# Altium integrated library TI Data Converters Digital to Analog Converter.IntLib: 1533 symbols (part 49 of 99)
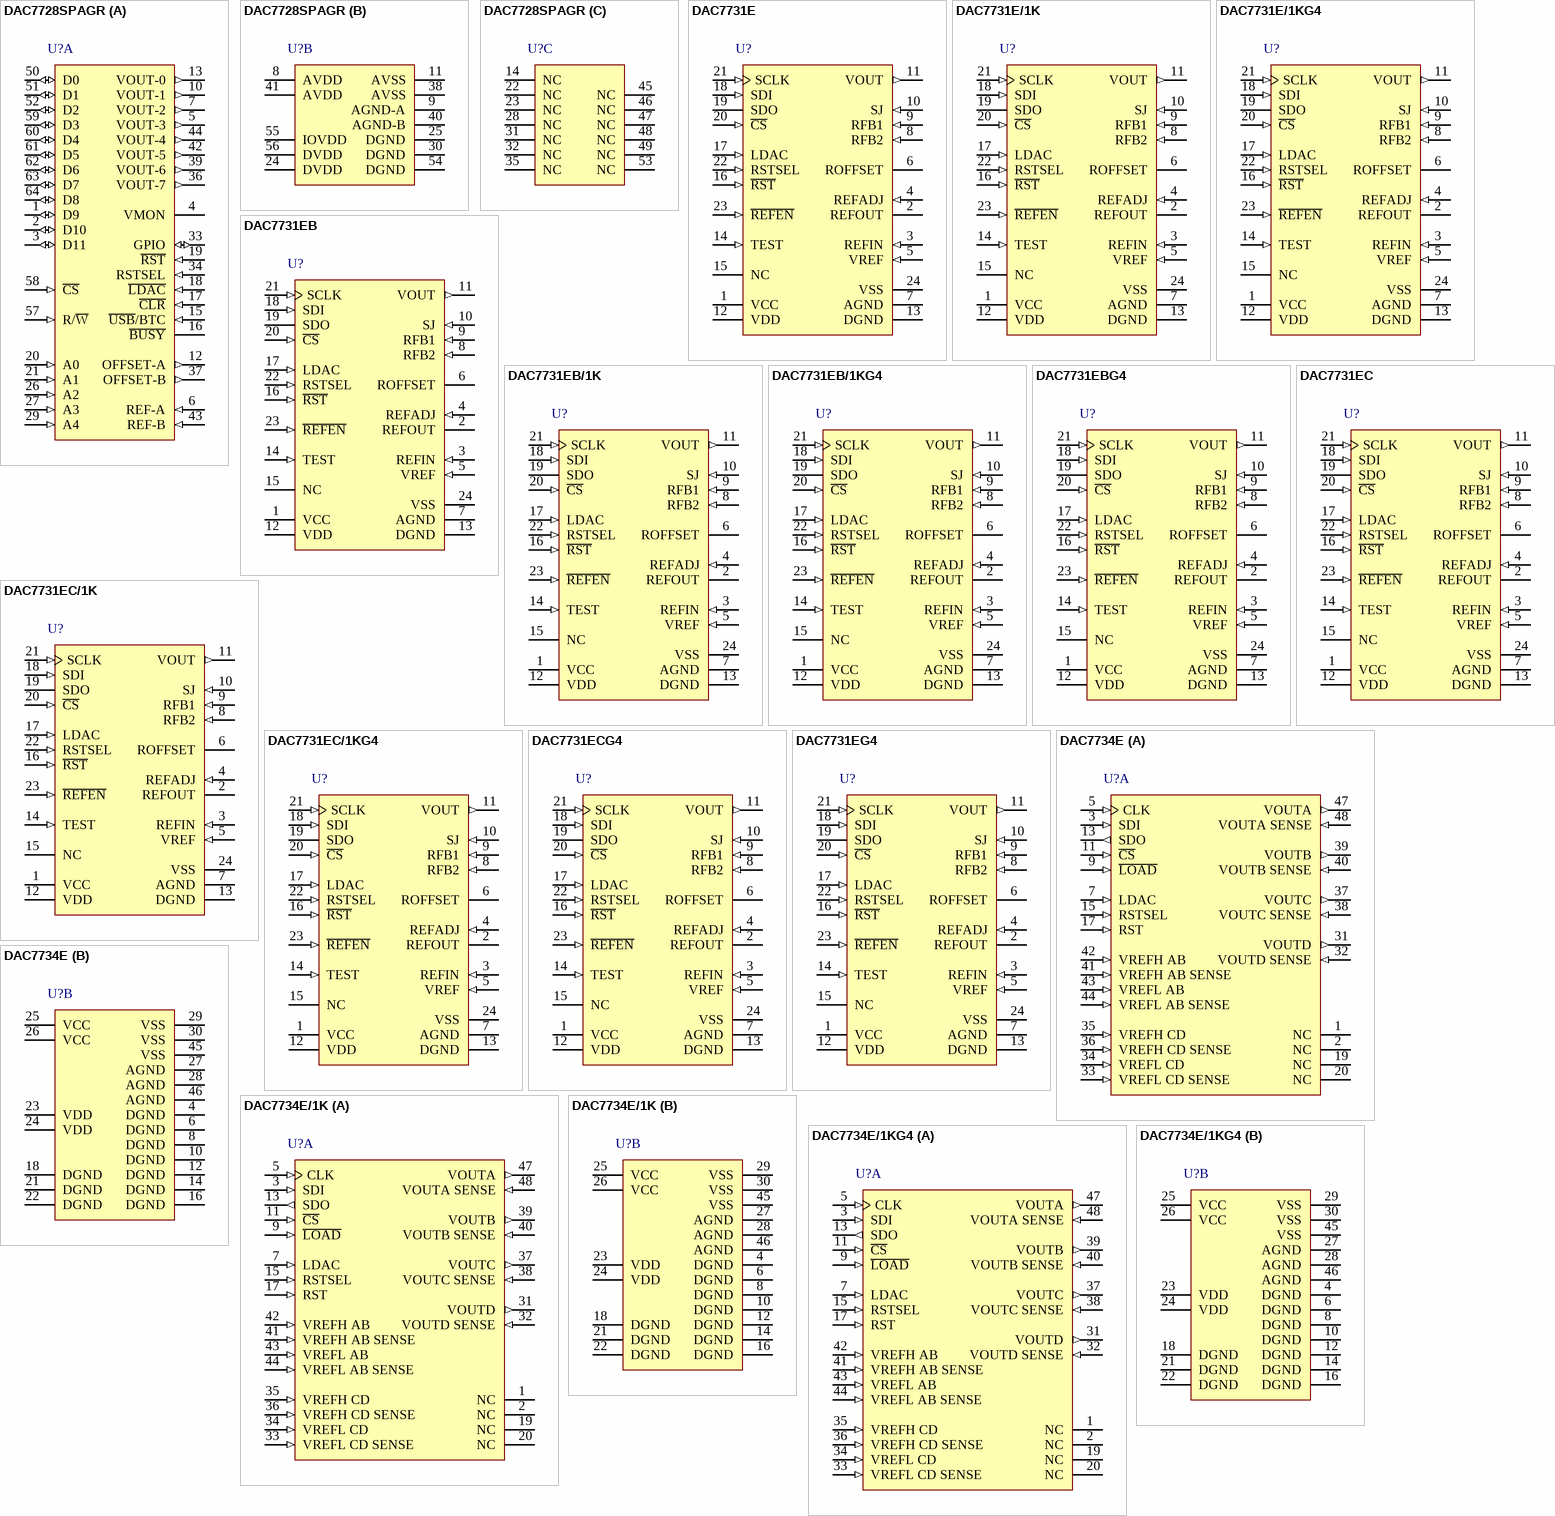
[diagram p121: symbols DAC7728SPAGR to DAC7734E/1KG4]

## DAC7731EC/1K
designator U?
16-Bit, Single Channel, DAC with Internal + 10 V Reference and Serial Interface, -40 to 85 degC, 24-pin SOP (DB24), Green (RoHS & no Sb/Br); Manufacturer: Texas Instruments; PartNumber: DAC7731EC/1K; DAC Channels: 1; INL(Max)(+/-LSB): 3; Interface: Serial SPI; Power Consumption(Typ)(mW): 100; Resolution(Bits): 16; Settling Time(us): 5; SubFamily: Precision DAC (=<10MSPS); DatasheetVersion: SBAS249B; PackageVersion: 4040065/E, 12/2001; PackageReference: DB24; PackageDescription: 24-Pin Plastic Small Outline, Body 8.2 x 5.3 mm, Pitch 0.65 mm; Supplier 1: Digi-Key; Supplier Part Number 1: DAC7731EC/1K-ND; Supplier 2: Mouser; Supplier Part Number 2: 595-DAC7731EC/1K; DNL(Max)(+/-LSB): 1; Eco-Plan: Green (RoHS & no Sb/Br); Mounting Technology: Surface Mount; Code_JEDEC: MO-150; ComponentLink1Description: Manufacturer URL; ComponentLink1URL: http://www.ti.com/; ComponentLink2Description: Datasheet; ComponentLink2URL: http://www.ti.com/general/docs/lit/getliterature.tsp?genericPartNumber=DAC7731&fileType=pdf; ComponentLink3Description: Package Specification; ComponentLink3URL: http://www.ti.com/lit/ml/msso002e/msso002e.pdf
footprint TI-DB24_N (SOP, 24-Leads, Body 8.2x5.3mm, Pitch 0.65mm, IPC Medium Density)
footprint TI-DB24_L (SOP, 24-Leads, Body 8.2x5.3mm, Pitch 0.65mm, IPC High Density)
footprint TI-DB24_M (SOP, 24-Leads, Body 8.2x5.3mm, Pitch 0.65mm, IPC Low Density)
pins: 1 VCC (power) "Positive Analog Power Supply", 2 REFOUT (hiz) "Internal Reference Output", 3 REFIN (in) "Reference Input", 4 REFADJ (in) "Internal Reference Trim. (Acts as a gain adjustment input when the internal reference is used.)", 5 VREF (in) "Buffered Output from REFIN, can be used to drive external devices. Internally, this pin directly drives the DAC's circuitry.", 6 ROFFSET "Offsetting Resistor", 7 AGND (power) "Analog ground", 8 RFB2 (in) "Feedback Resistor 2, used to configure DAC output range.", 9 RFB1 (in) "Feedback Resistor 1, used to configure DAC output range.", 10 SJ (in) "Summing Junction of the Output Amplifier", 11 VOUT (out) "DAC Voltage Output", 12 VDD (power) "Digital Power Supply", 13 DGND (power) "Digital Ground", 14 TEST (in) "Reserved, Connect to DGND", 15 NC "No Connection", 16 ~{RST} (in) "VOUT reset; active LOW, depending on the state of RSTSEL, the DAC register is either reset to midscale or min-scale.", 17 LDAC (in) "DAC register load control, rising dege triggered. Data is loaded from the input register to the DAC register.", 18 SDI (in) "Serial Data Input. Data is latched into the input register on the rising edge of SCLK.", 19 SDO (hiz) "Serial Data Output, delayed 16 SCLK clock cycles.", 20 ~{CS} (in) "Chip Select, Active LOW", 21 SCLK (in) "Serial Clock Input", 22 RSTSEL (in) "Reset Select; determines the action of R\S\T\. If HIGH, R\S\T\ will reset the DAC register to mid-scale. If LOW, R\S\T\ will reset the DAC register to min-scale.", 23 ~{REFEN} (in) "Enables internal +10V reference (REFOUT), active LOW.", 24 VSS (power) "Negative Analog Power Supply"

## DAC7731EC/1KG4
designator U?
16-Bit, Single Channel, DAC with Internal + 10 V Reference and Serial Interface, -40 to 85 degC, 24-pin SOP (DB24), Green (RoHS & no Sb/Br); Manufacturer: Texas Instruments; PartNumber: DAC7731EC/1KG4; DAC Channels: 1; INL(Max)(+/-LSB): 3; Interface: Serial SPI; Power Consumption(Typ)(mW): 100; Resolution(Bits): 16; Settling Time(us): 5; SubFamily: Precision DAC (=<10MSPS); DatasheetVersion: SBAS249B; PackageVersion: 4040065/E, 12/2001; PackageReference: DB24; PackageDescription: 24-Pin Plastic Small Outline, Body 8.2 x 5.3 mm, Pitch 0.65 mm; Supplier 1: Digi-Key; Supplier Part Number 1: DAC7731EC/1KG4-ND; Supplier 2: Mouser; Supplier Part Number 2: 595-DAC7731EC/1KG4; DNL(Max)(+/-LSB): 1; Eco-Plan: Green (RoHS & no Sb/Br); Mounting Technology: Surface Mount; Code_JEDEC: MO-150; ComponentLink1Description: Manufacturer URL; ComponentLink1URL: http://www.ti.com/; ComponentLink2Description: Datasheet; ComponentLink2URL: http://www.ti.com/general/docs/lit/getliterature.tsp?genericPartNumber=DAC7731&fileType=pdf; ComponentLink3Description: Package Specification; ComponentLink3URL: http://www.ti.com/lit/ml/msso002e/msso002e.pdf
footprint TI-DB24_N (SOP, 24-Leads, Body 8.2x5.3mm, Pitch 0.65mm, IPC Medium Density)
footprint TI-DB24_L (SOP, 24-Leads, Body 8.2x5.3mm, Pitch 0.65mm, IPC High Density)
footprint TI-DB24_M (SOP, 24-Leads, Body 8.2x5.3mm, Pitch 0.65mm, IPC Low Density)
pins: 1 VCC (power) "Positive Analog Power Supply", 2 REFOUT (hiz) "Internal Reference Output", 3 REFIN (in) "Reference Input", 4 REFADJ (in) "Internal Reference Trim. (Acts as a gain adjustment input when the internal reference is used.)", 5 VREF (in) "Buffered Output from REFIN, can be used to drive external devices. Internally, this pin directly drives the DAC's circuitry.", 6 ROFFSET "Offsetting Resistor", 7 AGND (power) "Analog ground", 8 RFB2 (in) "Feedback Resistor 2, used to configure DAC output range.", 9 RFB1 (in) "Feedback Resistor 1, used to configure DAC output range.", 10 SJ (in) "Summing Junction of the Output Amplifier", 11 VOUT (out) "DAC Voltage Output", 12 VDD (power) "Digital Power Supply", 13 DGND (power) "Digital Ground", 14 TEST (in) "Reserved, Connect to DGND", 15 NC "No Connection", 16 ~{RST} (in) "VOUT reset; active LOW, depending on the state of RSTSEL, the DAC register is either reset to midscale or min-scale.", 17 LDAC (in) "DAC register load control, rising dege triggered. Data is loaded from the input register to the DAC register.", 18 SDI (in) "Serial Data Input. Data is latched into the input register on the rising edge of SCLK.", 19 SDO (hiz) "Serial Data Output, delayed 16 SCLK clock cycles.", 20 ~{CS} (in) "Chip Select, Active LOW", 21 SCLK (in) "Serial Clock Input", 22 RSTSEL (in) "Reset Select; determines the action of R\S\T\. If HIGH, R\S\T\ will reset the DAC register to mid-scale. If LOW, R\S\T\ will reset the DAC register to min-scale.", 23 ~{REFEN} (in) "Enables internal +10V reference (REFOUT), active LOW.", 24 VSS (power) "Negative Analog Power Supply"

## DAC7731ECG4
designator U?
16-Bit, Single Channel, DAC with Internal + 10 V Reference and Serial Interface, -40 to 85 degC, 24-pin SOP (DB24), Green (RoHS & no Sb/Br); Manufacturer: Texas Instruments; PartNumber: DAC7731ECG4; DAC Channels: 1; INL(Max)(+/-LSB): 3; Interface: Serial SPI; Power Consumption(Typ)(mW): 100; Resolution(Bits): 16; Settling Time(us): 5; SubFamily: Precision DAC (=<10MSPS); DatasheetVersion: SBAS249B; PackageVersion: 4040065/E, 12/2001; PackageReference: DB24; PackageDescription: 24-Pin Plastic Small Outline, Body 8.2 x 5.3 mm, Pitch 0.65 mm; Supplier 1: Digi-Key; Supplier Part Number 1: DAC7731ECG4-ND; Supplier 2: Mouser; Supplier Part Number 2: 595-DAC7731ECG4; DNL(Max)(+/-LSB): 1; Eco-Plan: Green (RoHS & no Sb/Br); Mounting Technology: Surface Mount; Code_JEDEC: MO-150; ComponentLink1Description: Manufacturer URL; ComponentLink1URL: http://www.ti.com/; ComponentLink2Description: Datasheet; ComponentLink2URL: http://www.ti.com/general/docs/lit/getliterature.tsp?genericPartNumber=DAC7731&fileType=pdf; ComponentLink3Description: Package Specification; ComponentLink3URL: http://www.ti.com/lit/ml/msso002e/msso002e.pdf
footprint TI-DB24_N (SOP, 24-Leads, Body 8.2x5.3mm, Pitch 0.65mm, IPC Medium Density)
footprint TI-DB24_L (SOP, 24-Leads, Body 8.2x5.3mm, Pitch 0.65mm, IPC High Density)
footprint TI-DB24_M (SOP, 24-Leads, Body 8.2x5.3mm, Pitch 0.65mm, IPC Low Density)
pins: 1 VCC (power) "Positive Analog Power Supply", 2 REFOUT (hiz) "Internal Reference Output", 3 REFIN (in) "Reference Input", 4 REFADJ (in) "Internal Reference Trim. (Acts as a gain adjustment input when the internal reference is used.)", 5 VREF (in) "Buffered Output from REFIN, can be used to drive external devices. Internally, this pin directly drives the DAC's circuitry.", 6 ROFFSET "Offsetting Resistor", 7 AGND (power) "Analog ground", 8 RFB2 (in) "Feedback Resistor 2, used to configure DAC output range.", 9 RFB1 (in) "Feedback Resistor 1, used to configure DAC output range.", 10 SJ (in) "Summing Junction of the Output Amplifier", 11 VOUT (out) "DAC Voltage Output", 12 VDD (power) "Digital Power Supply", 13 DGND (power) "Digital Ground", 14 TEST (in) "Reserved, Connect to DGND", 15 NC "No Connection", 16 ~{RST} (in) "VOUT reset; active LOW, depending on the state of RSTSEL, the DAC register is either reset to midscale or min-scale.", 17 LDAC (in) "DAC register load control, rising dege triggered. Data is loaded from the input register to the DAC register.", 18 SDI (in) "Serial Data Input. Data is latched into the input register on the rising edge of SCLK.", 19 SDO (hiz) "Serial Data Output, delayed 16 SCLK clock cycles.", 20 ~{CS} (in) "Chip Select, Active LOW", 21 SCLK (in) "Serial Clock Input", 22 RSTSEL (in) "Reset Select; determines the action of R\S\T\. If HIGH, R\S\T\ will reset the DAC register to mid-scale. If LOW, R\S\T\ will reset the DAC register to min-scale.", 23 ~{REFEN} (in) "Enables internal +10V reference (REFOUT), active LOW.", 24 VSS (power) "Negative Analog Power Supply"

## DAC7731EG4
designator U?
16-Bit, Single Channel, DAC with Internal + 10 V Reference and Serial Interface, -40 to 85 degC, 24-pin SOP (DB24), Green (RoHS & no Sb/Br); Manufacturer: Texas Instruments; PartNumber: DAC7731EG4; DAC Channels: 1; DNL(Max)(+/-LSB): 4; INL(Max)(+/-LSB): 6; Interface: Serial SPI; Power Consumption(Typ)(mW): 100; Resolution(Bits): 16; Settling Time(us): 5; SubFamily: Precision DAC (=<10MSPS); DatasheetVersion: SBAS249B; PackageVersion: 4040065/E, 12/2001; PackageReference: DB24; PackageDescription: 24-Pin Plastic Small Outline, Body 8.2 x 5.3 mm, Pitch 0.65 mm; Supplier 1: Digi-Key; Supplier Part Number 1: DAC7731EG4-ND; Supplier 2: Mouser; Supplier Part Number 2: 595-DAC7731EG4; Eco-Plan: Green (RoHS & no Sb/Br); Mounting Technology: Surface Mount; Code_JEDEC: MO-150; ComponentLink1Description: Manufacturer URL; ComponentLink1URL: http://www.ti.com/; ComponentLink2Description: Datasheet; ComponentLink2URL: http://www.ti.com/general/docs/lit/getliterature.tsp?genericPartNumber=DAC7731&fileType=pdf; ComponentLink3Description: Package Specification; ComponentLink3URL: http://www.ti.com/lit/ml/msso002e/msso002e.pdf
footprint TI-DB24_N (SOP, 24-Leads, Body 8.2x5.3mm, Pitch 0.65mm, IPC Medium Density)
footprint TI-DB24_L (SOP, 24-Leads, Body 8.2x5.3mm, Pitch 0.65mm, IPC High Density)
footprint TI-DB24_M (SOP, 24-Leads, Body 8.2x5.3mm, Pitch 0.65mm, IPC Low Density)
pins: 1 VCC (power) "Positive Analog Power Supply", 2 REFOUT (hiz) "Internal Reference Output", 3 REFIN (in) "Reference Input", 4 REFADJ (in) "Internal Reference Trim. (Acts as a gain adjustment input when the internal reference is used.)", 5 VREF (in) "Buffered Output from REFIN, can be used to drive external devices. Internally, this pin directly drives the DAC's circuitry.", 6 ROFFSET "Offsetting Resistor", 7 AGND (power) "Analog ground", 8 RFB2 (in) "Feedback Resistor 2, used to configure DAC output range.", 9 RFB1 (in) "Feedback Resistor 1, used to configure DAC output range.", 10 SJ (in) "Summing Junction of the Output Amplifier", 11 VOUT (out) "DAC Voltage Output", 12 VDD (power) "Digital Power Supply", 13 DGND (power) "Digital Ground", 14 TEST (in) "Reserved, Connect to DGND", 15 NC "No Connection", 16 ~{RST} (in) "VOUT reset; active LOW, depending on the state of RSTSEL, the DAC register is either reset to midscale or min-scale.", 17 LDAC (in) "DAC register load control, rising dege triggered. Data is loaded from the input register to the DAC register.", 18 SDI (in) "Serial Data Input. Data is latched into the input register on the rising edge of SCLK.", 19 SDO (hiz) "Serial Data Output, delayed 16 SCLK clock cycles.", 20 ~{CS} (in) "Chip Select, Active LOW", 21 SCLK (in) "Serial Clock Input", 22 RSTSEL (in) "Reset Select; determines the action of R\S\T\. If HIGH, R\S\T\ will reset the DAC register to mid-scale. If LOW, R\S\T\ will reset the DAC register to min-scale.", 23 ~{REFEN} (in) "Enables internal +10V reference (REFOUT), active LOW.", 24 VSS (power) "Negative Analog Power Supply"

## DAC7734E
designator U?
16-Bit, Quad Voltage Output, Serial Input DAC, -40 to 85 degC, 48-pin SOP (DL48), Green (RoHS & no Sb/Br); Manufacturer: Texas Instruments; PartNumber: DAC7734E; DAC Channels: 4; DNL(Max)(+/-LSB): 3; Interface: Serial SPI; Resolution(Bits): 16; Settling Time(us): 10; SubFamily: Precision DAC (=<10MSPS); DatasheetVersion: SBAS138A; PackageVersion: 4040048/E, 12/2001; PackageReference: DL48; PackageDescription: 48-Pin Plastic Small Outline, Body 7.49 x 15.88 mm, Pitch 0.635 mm; Supplier 1: Digi-Key; Supplier Part Number 1: DAC7734E-ND; Supplier 2: Farnell; Supplier Part Number 2: 1212277; Supplier 3: Mouser; Supplier Part Number 3: 595-DAC7734E; Eco-Plan: Green (RoHS & no Sb/Br); INL(Max)(+/-LSB): 3; Mounting Technology: Surface Mount; Code_JEDEC: MO-118; ComponentLink1Description: Manufacturer URL; ComponentLink1URL: http://www.ti.com/; ComponentLink2Description: Datasheet; ComponentLink2URL: http://www.ti.com/general/docs/lit/getliterature.tsp?genericPartNumber=DAC7734&fileType=pdf; ComponentLink3Description: Package Specification; ComponentLink3URL: http://www.ti.com/lit/ml/msso001c/msso001c.pdf
footprint TI-DL48_N (SOP, 48-Leads, Body 15.88x7.49mm, Pitch 0.635mm, IPC Medium Density)
footprint TI-DL48_L (SOP, 48-Leads, Body 15.88x7.49mm, Pitch 0.635mm, IPC High Density)
footprint TI-DL48_M (SOP, 48-Leads, Body 15.88x7.49mm, Pitch 0.635mm, IPC Low Density)
part A pins: 1 NC "No Connection", 2 NC "No Connection", 3 SDI (in) "Serial Data Input", 5 CLK (in) "Data Clock Input", 7 LDAC (in) "DAC Register Load Control, Rising Edge Triggered", 9 ~{LOAD} (in) "DAC Input Register Load Control, Active Low", 11 ~{CS} (in) "Chip Select, Active Low", 13 SDO (out) "Serial Data Output", 15 RSTSEL (in) "Reset Select. Determines the action of RST. If HIGH, a RST common will set the DAC registers to mid-scale (8000H). If LOW, a RST command will set the DAC registers to zero (0000H).", 17 RST (in) "Reset, Rising Edge Triggered. Depending on the state of RSTSEL, the DAC registers are set to either mid-scale or zero.", 19 NC "No Connection", 20 NC "No Connection", 31 VOUTD (out) "DAC D Output Voltage", 32 VOUTD SENSE (in) "DAC D’s Output Amplifier Inverting Input. Used to close feedback loop at load.", 33 VREFL CD SENSE (in) "DAC C and D Reference Low Sense Input", 34 VREFL CD (in) "DAC C and D Reference Low Input", 35 VREFH CD (in) "DAC C and D Reference High Input", 36 VREFH CD SENSE (in) "DAC C and D Reference High Sense Input", 37 VOUTC (out) "DAC C Output Voltage", 38 VOUTC SENSE (in) "DAC C’s Output Amplifier Inverting Input. Used to close the feedback loop at the load.", 39 VOUTB (out) "DAC B Output Voltage", 40 VOUTB SENSE (in) "DAC B’s Output Amplifier Inverting Input. Used to close the feedback loop at the load.", 41 VREFH AB SENSE (in) "DAC A and B Reference High Sense Input", 42 VREFH AB (in) "DAC A and B Reference High Input", 43 VREFL AB (in) "DAC A and B Reference Low Input", 44 VREFL AB SENSE (in) "DAC A and B Reference Low Sense Input", 47 VOUTA (out) "DAC A Output Voltage", 48 VOUTA SENSE (in) "DAC A’s Output Amplifier Inverting Input. Used to close the feedback loop at the load."
part B pins: 4 DGND (power) "Digital Ground", 6 DGND (power) "Digital Ground", 8 DGND (power) "Digital Ground", 10 DGND (power) "Digital Ground", 12 DGND (power) "Digital Ground", 14 DGND (power) "Digital Ground", 16 DGND (power) "Digital Ground", 18 DGND (power) "Digital Ground", 21 DGND (power) "Digital Ground", 22 DGND (power) "Digital Ground", 23 VDD (power) "Digital +5V Power Supply", 24 VDD (power) "Digital +5V Power Supply", 25 VCC (power) "Analog +15V Power Supply", 26 VCC (power) "Analog +15V Power Supply", 27 AGND (power) "Analog Ground", 28 AGND (power) "Analog Ground", 29 VSS (power) "Analog -15V Power Supply or 0V Single Supply", 30 VSS (power) "Analog -15V Power Supply or 0V Single Supply", 45 VSS (power) "Analog -15V Power Supply or 0V Single Supply", 46 AGND (power) "Analog Ground"

## DAC7734E/1K
designator U?
16-Bit, Quad Voltage Output, Serial Input DAC, -40 to 85 degC, 48-pin SOP (DL48), Green (RoHS & no Sb/Br); Manufacturer: Texas Instruments; PartNumber: DAC7734E/1K; DAC Channels: 4; DNL(Max)(+/-LSB): 3; Interface: Serial SPI; Resolution(Bits): 16; Settling Time(us): 10; SubFamily: Precision DAC (=<10MSPS); DatasheetVersion: SBAS138A; PackageVersion: 4040048/E, 12/2001; PackageReference: DL48; PackageDescription: 48-Pin Plastic Small Outline, Body 7.49 x 15.88 mm, Pitch 0.635 mm; Supplier 1: Digi-Key; Supplier Part Number 1: DAC7734E/1K-ND; Supplier 2: Mouser; Supplier Part Number 2: 595-DAC7734E/1K; Eco-Plan: Green (RoHS & no Sb/Br); INL(Max)(+/-LSB): 3; Mounting Technology: Surface Mount; Code_JEDEC: MO-118; ComponentLink1Description: Manufacturer URL; ComponentLink1URL: http://www.ti.com/; ComponentLink2Description: Datasheet; ComponentLink2URL: http://www.ti.com/general/docs/lit/getliterature.tsp?genericPartNumber=DAC7734&fileType=pdf; ComponentLink3Description: Package Specification; ComponentLink3URL: http://www.ti.com/lit/ml/msso001c/msso001c.pdf
footprint TI-DL48_N (SOP, 48-Leads, Body 15.88x7.49mm, Pitch 0.635mm, IPC Medium Density)
footprint TI-DL48_L (SOP, 48-Leads, Body 15.88x7.49mm, Pitch 0.635mm, IPC High Density)
footprint TI-DL48_M (SOP, 48-Leads, Body 15.88x7.49mm, Pitch 0.635mm, IPC Low Density)
part A pins: 1 NC "No Connection", 2 NC "No Connection", 3 SDI (in) "Serial Data Input", 5 CLK (in) "Data Clock Input", 7 LDAC (in) "DAC Register Load Control, Rising Edge Triggered", 9 ~{LOAD} (in) "DAC Input Register Load Control, Active Low", 11 ~{CS} (in) "Chip Select, Active Low", 13 SDO (out) "Serial Data Output", 15 RSTSEL (in) "Reset Select. Determines the action of RST. If HIGH, a RST common will set the DAC registers to mid-scale (8000H). If LOW, a RST command will set the DAC registers to zero (0000H).", 17 RST (in) "Reset, Rising Edge Triggered. Depending on the state of RSTSEL, the DAC registers are set to either mid-scale or zero.", 19 NC "No Connection", 20 NC "No Connection", 31 VOUTD (out) "DAC D Output Voltage", 32 VOUTD SENSE (in) "DAC D’s Output Amplifier Inverting Input. Used to close feedback loop at load.", 33 VREFL CD SENSE (in) "DAC C and D Reference Low Sense Input", 34 VREFL CD (in) "DAC C and D Reference Low Input", 35 VREFH CD (in) "DAC C and D Reference High Input", 36 VREFH CD SENSE (in) "DAC C and D Reference High Sense Input", 37 VOUTC (out) "DAC C Output Voltage", 38 VOUTC SENSE (in) "DAC C’s Output Amplifier Inverting Input. Used to close the feedback loop at the load.", 39 VOUTB (out) "DAC B Output Voltage", 40 VOUTB SENSE (in) "DAC B’s Output Amplifier Inverting Input. Used to close the feedback loop at the load.", 41 VREFH AB SENSE (in) "DAC A and B Reference High Sense Input", 42 VREFH AB (in) "DAC A and B Reference High Input", 43 VREFL AB (in) "DAC A and B Reference Low Input", 44 VREFL AB SENSE (in) "DAC A and B Reference Low Sense Input", 47 VOUTA (out) "DAC A Output Voltage", 48 VOUTA SENSE (in) "DAC A’s Output Amplifier Inverting Input. Used to close the feedback loop at the load."
part B pins: 4 DGND (power) "Digital Ground", 6 DGND (power) "Digital Ground", 8 DGND (power) "Digital Ground", 10 DGND (power) "Digital Ground", 12 DGND (power) "Digital Ground", 14 DGND (power) "Digital Ground", 16 DGND (power) "Digital Ground", 18 DGND (power) "Digital Ground", 21 DGND (power) "Digital Ground", 22 DGND (power) "Digital Ground", 23 VDD (power) "Digital +5V Power Supply", 24 VDD (power) "Digital +5V Power Supply", 25 VCC (power) "Analog +15V Power Supply", 26 VCC (power) "Analog +15V Power Supply", 27 AGND (power) "Analog Ground", 28 AGND (power) "Analog Ground", 29 VSS (power) "Analog -15V Power Supply or 0V Single Supply", 30 VSS (power) "Analog -15V Power Supply or 0V Single Supply", 45 VSS (power) "Analog -15V Power Supply or 0V Single Supply", 46 AGND (power) "Analog Ground"

## DAC7734E/1KG4
designator U?
16-Bit, Quad Voltage Output, Serial Input DAC, -40 to 85 degC, 48-pin SOP (DL48), Green (RoHS & no Sb/Br); Manufacturer: Texas Instruments; PartNumber: DAC7734E/1KG4; DAC Channels: 4; DNL(Max)(+/-LSB): 3; Interface: Serial SPI; Resolution(Bits): 16; Settling Time(us): 10; SubFamily: Precision DAC (=<10MSPS); DatasheetVersion: SBAS138A; PackageVersion: 4040048/E, 12/2001; PackageReference: DL48; PackageDescription: 48-Pin Plastic Small Outline, Body 7.49 x 15.88 mm, Pitch 0.635 mm; Supplier 1: Digi-Key; Supplier Part Number 1: DAC7734E/1KG4-ND; Supplier 2: Mouser; Supplier Part Number 2: 595-DAC7734E/1KG4; Eco-Plan: Green (RoHS & no Sb/Br); INL(Max)(+/-LSB): 3; Mounting Technology: Surface Mount; Code_JEDEC: MO-118; ComponentLink1Description: Manufacturer URL; ComponentLink1URL: http://www.ti.com/; ComponentLink2Description: Datasheet; ComponentLink2URL: http://www.ti.com/general/docs/lit/getliterature.tsp?genericPartNumber=DAC7734&fileType=pdf; ComponentLink3Description: Package Specification; ComponentLink3URL: http://www.ti.com/lit/ml/msso001c/msso001c.pdf
footprint TI-DL48_N (SOP, 48-Leads, Body 15.88x7.49mm, Pitch 0.635mm, IPC Medium Density)
footprint TI-DL48_L (SOP, 48-Leads, Body 15.88x7.49mm, Pitch 0.635mm, IPC High Density)
footprint TI-DL48_M (SOP, 48-Leads, Body 15.88x7.49mm, Pitch 0.635mm, IPC Low Density)
part A pins: 1 NC "No Connection", 2 NC "No Connection", 3 SDI (in) "Serial Data Input", 5 CLK (in) "Data Clock Input", 7 LDAC (in) "DAC Register Load Control, Rising Edge Triggered", 9 ~{LOAD} (in) "DAC Input Register Load Control, Active Low", 11 ~{CS} (in) "Chip Select, Active Low", 13 SDO (out) "Serial Data Output", 15 RSTSEL (in) "Reset Select. Determines the action of RST. If HIGH, a RST common will set the DAC registers to mid-scale (8000H). If LOW, a RST command will set the DAC registers to zero (0000H).", 17 RST (in) "Reset, Rising Edge Triggered. Depending on the state of RSTSEL, the DAC registers are set to either mid-scale or zero.", 19 NC "No Connection", 20 NC "No Connection", 31 VOUTD (out) "DAC D Output Voltage", 32 VOUTD SENSE (in) "DAC D’s Output Amplifier Inverting Input. Used to close feedback loop at load.", 33 VREFL CD SENSE (in) "DAC C and D Reference Low Sense Input", 34 VREFL CD (in) "DAC C and D Reference Low Input", 35 VREFH CD (in) "DAC C and D Reference High Input", 36 VREFH CD SENSE (in) "DAC C and D Reference High Sense Input", 37 VOUTC (out) "DAC C Output Voltage", 38 VOUTC SENSE (in) "DAC C’s Output Amplifier Inverting Input. Used to close the feedback loop at the load.", 39 VOUTB (out) "DAC B Output Voltage", 40 VOUTB SENSE (in) "DAC B’s Output Amplifier Inverting Input. Used to close the feedback loop at the load.", 41 VREFH AB SENSE (in) "DAC A and B Reference High Sense Input", 42 VREFH AB (in) "DAC A and B Reference High Input", 43 VREFL AB (in) "DAC A and B Reference Low Input", 44 VREFL AB SENSE (in) "DAC A and B Reference Low Sense Input", 47 VOUTA (out) "DAC A Output Voltage", 48 VOUTA SENSE (in) "DAC A’s Output Amplifier Inverting Input. Used to close the feedback loop at the load."
part B pins: 4 DGND (power) "Digital Ground", 6 DGND (power) "Digital Ground", 8 DGND (power) "Digital Ground", 10 DGND (power) "Digital Ground", 12 DGND (power) "Digital Ground", 14 DGND (power) "Digital Ground", 16 DGND (power) "Digital Ground", 18 DGND (power) "Digital Ground", 21 DGND (power) "Digital Ground", 22 DGND (power) "Digital Ground", 23 VDD (power) "Digital +5V Power Supply", 24 VDD (power) "Digital +5V Power Supply", 25 VCC (power) "Analog +15V Power Supply", 26 VCC (power) "Analog +15V Power Supply", 27 AGND (power) "Analog Ground", 28 AGND (power) "Analog Ground", 29 VSS (power) "Analog -15V Power Supply or 0V Single Supply", 30 VSS (power) "Analog -15V Power Supply or 0V Single Supply", 45 VSS (power) "Analog -15V Power Supply or 0V Single Supply", 46 AGND (power) "Analog Ground"

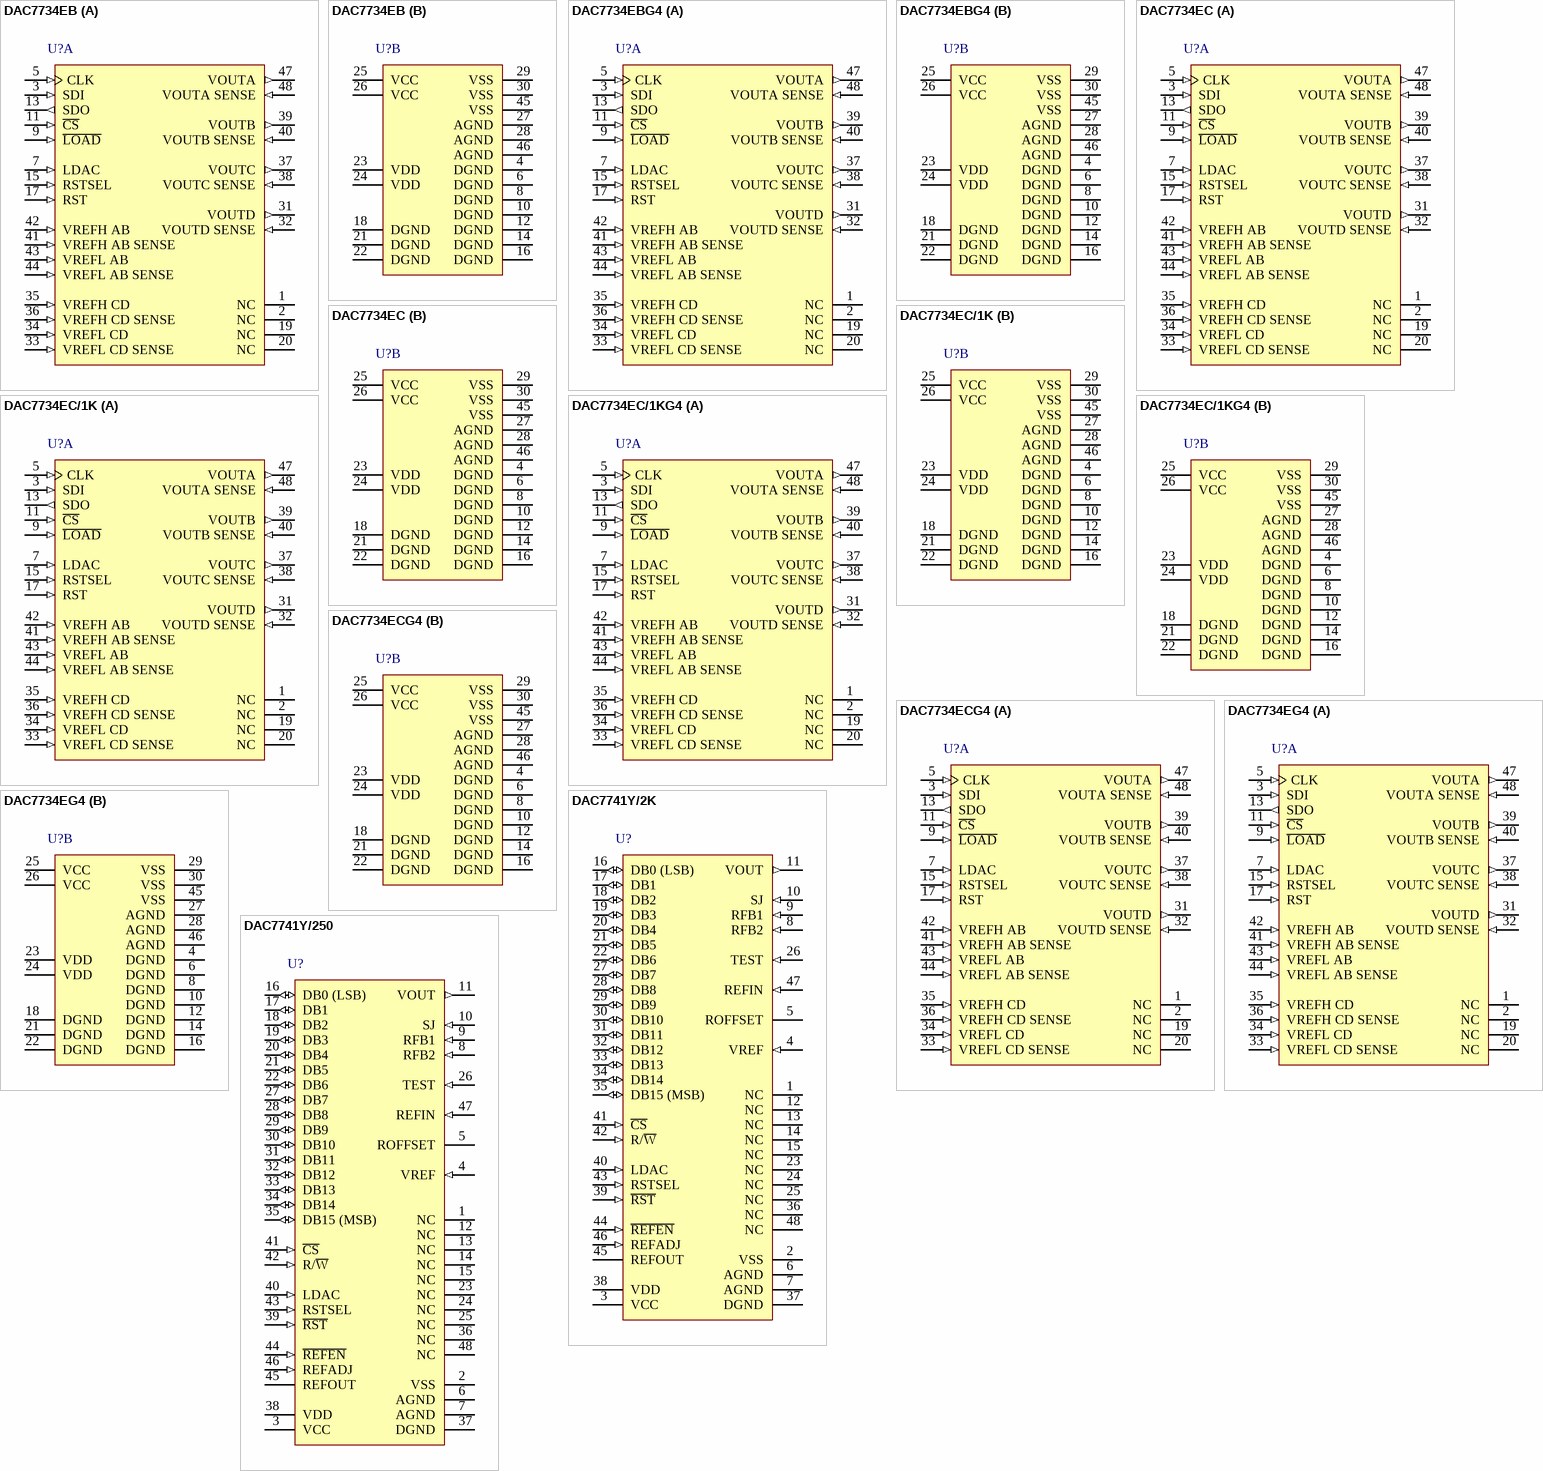
[diagram p38: symbols DAC7734EB to DAC7741Y/250]

## DAC7734EB
designator U?
16-Bit, Quad Voltage Output, Serial Input DAC, -40 to 85 degC, 48-pin SOP (DL48), Green (RoHS & no Sb/Br); Manufacturer: Texas Instruments; PartNumber: DAC7734EB; DAC Channels: 4; DNL(Max)(+/-LSB): 2; INL(Max)(+/-LSB): 3; Interface: Serial SPI; Resolution(Bits): 16; Settling Time(us): 10; SubFamily: Precision DAC (=<10MSPS); DatasheetVersion: SBAS138A; PackageVersion: 4040048/E, 12/2001; PackageReference: DL48; PackageDescription: 48-Pin Plastic Small Outline, Body 7.49 x 15.88 mm, Pitch 0.635 mm; Supplier 1: Digi-Key; Supplier Part Number 1: DAC7734EB-ND; Supplier 2: Farnell; Supplier Part Number 2: 1460230; Supplier 3: Mouser; Supplier Part Number 3: 595-DAC7734EB; Eco-Plan: Green (RoHS & no Sb/Br); Mounting Technology: Surface Mount; Code_JEDEC: MO-118; ComponentLink1Description: Manufacturer URL; ComponentLink1URL: http://www.ti.com/; ComponentLink2Description: Datasheet; ComponentLink2URL: http://www.ti.com/general/docs/lit/getliterature.tsp?genericPartNumber=DAC7734&fileType=pdf; ComponentLink3Description: Package Specification; ComponentLink3URL: http://www.ti.com/lit/ml/msso001c/msso001c.pdf
footprint TI-DL48_N (SOP, 48-Leads, Body 15.88x7.49mm, Pitch 0.635mm, IPC Medium Density)
footprint TI-DL48_L (SOP, 48-Leads, Body 15.88x7.49mm, Pitch 0.635mm, IPC High Density)
footprint TI-DL48_M (SOP, 48-Leads, Body 15.88x7.49mm, Pitch 0.635mm, IPC Low Density)
part A pins: 1 NC "No Connection", 2 NC "No Connection", 3 SDI (in) "Serial Data Input", 5 CLK (in) "Data Clock Input", 7 LDAC (in) "DAC Register Load Control, Rising Edge Triggered", 9 ~{LOAD} (in) "DAC Input Register Load Control, Active Low", 11 ~{CS} (in) "Chip Select, Active Low", 13 SDO (out) "Serial Data Output", 15 RSTSEL (in) "Reset Select. Determines the action of RST. If HIGH, a RST common will set the DAC registers to mid-scale (8000H). If LOW, a RST command will set the DAC registers to zero (0000H).", 17 RST (in) "Reset, Rising Edge Triggered. Depending on the state of RSTSEL, the DAC registers are set to either mid-scale or zero.", 19 NC "No Connection", 20 NC "No Connection", 31 VOUTD (out) "DAC D Output Voltage", 32 VOUTD SENSE (in) "DAC D’s Output Amplifier Inverting Input. Used to close feedback loop at load.", 33 VREFL CD SENSE (in) "DAC C and D Reference Low Sense Input", 34 VREFL CD (in) "DAC C and D Reference Low Input", 35 VREFH CD (in) "DAC C and D Reference High Input", 36 VREFH CD SENSE (in) "DAC C and D Reference High Sense Input", 37 VOUTC (out) "DAC C Output Voltage", 38 VOUTC SENSE (in) "DAC C’s Output Amplifier Inverting Input. Used to close the feedback loop at the load.", 39 VOUTB (out) "DAC B Output Voltage", 40 VOUTB SENSE (in) "DAC B’s Output Amplifier Inverting Input. Used to close the feedback loop at the load.", 41 VREFH AB SENSE (in) "DAC A and B Reference High Sense Input", 42 VREFH AB (in) "DAC A and B Reference High Input", 43 VREFL AB (in) "DAC A and B Reference Low Input", 44 VREFL AB SENSE (in) "DAC A and B Reference Low Sense Input", 47 VOUTA (out) "DAC A Output Voltage", 48 VOUTA SENSE (in) "DAC A’s Output Amplifier Inverting Input. Used to close the feedback loop at the load."
part B pins: 4 DGND (power) "Digital Ground", 6 DGND (power) "Digital Ground", 8 DGND (power) "Digital Ground", 10 DGND (power) "Digital Ground", 12 DGND (power) "Digital Ground", 14 DGND (power) "Digital Ground", 16 DGND (power) "Digital Ground", 18 DGND (power) "Digital Ground", 21 DGND (power) "Digital Ground", 22 DGND (power) "Digital Ground", 23 VDD (power) "Digital +5V Power Supply", 24 VDD (power) "Digital +5V Power Supply", 25 VCC (power) "Analog +15V Power Supply", 26 VCC (power) "Analog +15V Power Supply", 27 AGND (power) "Analog Ground", 28 AGND (power) "Analog Ground", 29 VSS (power) "Analog -15V Power Supply or 0V Single Supply", 30 VSS (power) "Analog -15V Power Supply or 0V Single Supply", 45 VSS (power) "Analog -15V Power Supply or 0V Single Supply", 46 AGND (power) "Analog Ground"

## DAC7734EBG4
designator U?
16-Bit, Quad Voltage Output, Serial Input DAC, -40 to 85 degC, 48-pin SOP (DL48), Green (RoHS & no Sb/Br); Manufacturer: Texas Instruments; PartNumber: DAC7734EBG4; DAC Channels: 4; DNL(Max)(+/-LSB): 2; INL(Max)(+/-LSB): 3; Interface: Serial SPI; Resolution(Bits): 16; Settling Time(us): 10; SubFamily: Precision DAC (=<10MSPS); DatasheetVersion: SBAS138A; PackageVersion: 4040048/E, 12/2001; PackageReference: DL48; PackageDescription: 48-Pin Plastic Small Outline, Body 7.49 x 15.88 mm, Pitch 0.635 mm; Supplier 1: Digi-Key; Supplier Part Number 1: DAC7734EBG4-ND; Supplier 2: Mouser; Supplier Part Number 2: 595-DAC7734EBG4; Eco-Plan: Green (RoHS & no Sb/Br); Mounting Technology: Surface Mount; Code_JEDEC: MO-118; ComponentLink1Description: Manufacturer URL; ComponentLink1URL: http://www.ti.com/; ComponentLink2Description: Datasheet; ComponentLink2URL: http://www.ti.com/general/docs/lit/getliterature.tsp?genericPartNumber=DAC7734&fileType=pdf; ComponentLink3Description: Package Specification; ComponentLink3URL: http://www.ti.com/lit/ml/msso001c/msso001c.pdf
footprint TI-DL48_N (SOP, 48-Leads, Body 15.88x7.49mm, Pitch 0.635mm, IPC Medium Density)
footprint TI-DL48_L (SOP, 48-Leads, Body 15.88x7.49mm, Pitch 0.635mm, IPC High Density)
footprint TI-DL48_M (SOP, 48-Leads, Body 15.88x7.49mm, Pitch 0.635mm, IPC Low Density)
part A pins: 1 NC "No Connection", 2 NC "No Connection", 3 SDI (in) "Serial Data Input", 5 CLK (in) "Data Clock Input", 7 LDAC (in) "DAC Register Load Control, Rising Edge Triggered", 9 ~{LOAD} (in) "DAC Input Register Load Control, Active Low", 11 ~{CS} (in) "Chip Select, Active Low", 13 SDO (out) "Serial Data Output", 15 RSTSEL (in) "Reset Select. Determines the action of RST. If HIGH, a RST common will set the DAC registers to mid-scale (8000H). If LOW, a RST command will set the DAC registers to zero (0000H).", 17 RST (in) "Reset, Rising Edge Triggered. Depending on the state of RSTSEL, the DAC registers are set to either mid-scale or zero.", 19 NC "No Connection", 20 NC "No Connection", 31 VOUTD (out) "DAC D Output Voltage", 32 VOUTD SENSE (in) "DAC D’s Output Amplifier Inverting Input. Used to close feedback loop at load.", 33 VREFL CD SENSE (in) "DAC C and D Reference Low Sense Input", 34 VREFL CD (in) "DAC C and D Reference Low Input", 35 VREFH CD (in) "DAC C and D Reference High Input", 36 VREFH CD SENSE (in) "DAC C and D Reference High Sense Input", 37 VOUTC (out) "DAC C Output Voltage", 38 VOUTC SENSE (in) "DAC C’s Output Amplifier Inverting Input. Used to close the feedback loop at the load.", 39 VOUTB (out) "DAC B Output Voltage", 40 VOUTB SENSE (in) "DAC B’s Output Amplifier Inverting Input. Used to close the feedback loop at the load.", 41 VREFH AB SENSE (in) "DAC A and B Reference High Sense Input", 42 VREFH AB (in) "DAC A and B Reference High Input", 43 VREFL AB (in) "DAC A and B Reference Low Input", 44 VREFL AB SENSE (in) "DAC A and B Reference Low Sense Input", 47 VOUTA (out) "DAC A Output Voltage", 48 VOUTA SENSE (in) "DAC A’s Output Amplifier Inverting Input. Used to close the feedback loop at the load."
part B pins: 4 DGND (power) "Digital Ground", 6 DGND (power) "Digital Ground", 8 DGND (power) "Digital Ground", 10 DGND (power) "Digital Ground", 12 DGND (power) "Digital Ground", 14 DGND (power) "Digital Ground", 16 DGND (power) "Digital Ground", 18 DGND (power) "Digital Ground", 21 DGND (power) "Digital Ground", 22 DGND (power) "Digital Ground", 23 VDD (power) "Digital +5V Power Supply", 24 VDD (power) "Digital +5V Power Supply", 25 VCC (power) "Analog +15V Power Supply", 26 VCC (power) "Analog +15V Power Supply", 27 AGND (power) "Analog Ground", 28 AGND (power) "Analog Ground", 29 VSS (power) "Analog -15V Power Supply or 0V Single Supply", 30 VSS (power) "Analog -15V Power Supply or 0V Single Supply", 45 VSS (power) "Analog -15V Power Supply or 0V Single Supply", 46 AGND (power) "Analog Ground"

## DAC7734EC
designator U?
16-Bit, Quad Voltage Output, Serial Input DAC, -40 to 85 degC, 48-pin SOP (DL48), Green (RoHS & no Sb/Br); Manufacturer: Texas Instruments; PartNumber: DAC7734EC; DAC Channels: 4; DNL(Max)(+/-LSB): 1; INL(Max)(+/-LSB): 2; Interface: Serial SPI; Resolution(Bits): 16; Settling Time(us): 10; SubFamily: Precision DAC (=<10MSPS); DatasheetVersion: SBAS138A; PackageVersion: 4040048/E, 12/2001; PackageReference: DL48; PackageDescription: 48-Pin Plastic Small Outline, Body 7.49 x 15.88 mm, Pitch 0.635 mm; Supplier 1: Digi-Key; Supplier Part Number 1: DAC7734EC-ND; Supplier 2: Farnell; Supplier Part Number 2: 1212279; Supplier 3: Newark; Supplier Part Number 3: 74C9262; Supplier 4: Mouser; Supplier Part Number 4: 595-DAC7734EC; Eco-Plan: Green (RoHS & no Sb/Br); Mounting Technology: Surface Mount; Code_JEDEC: MO-118; ComponentLink1Description: Manufacturer URL; ComponentLink1URL: http://www.ti.com/; ComponentLink2Description: Datasheet; ComponentLink2URL: http://www.ti.com/general/docs/lit/getliterature.tsp?genericPartNumber=DAC7734&fileType=pdf; ComponentLink3Description: Package Specification; ComponentLink3URL: http://www.ti.com/lit/ml/msso001c/msso001c.pdf
footprint TI-DL48_N (SOP, 48-Leads, Body 15.88x7.49mm, Pitch 0.635mm, IPC Medium Density)
footprint TI-DL48_L (SOP, 48-Leads, Body 15.88x7.49mm, Pitch 0.635mm, IPC High Density)
footprint TI-DL48_M (SOP, 48-Leads, Body 15.88x7.49mm, Pitch 0.635mm, IPC Low Density)
part A pins: 1 NC "No Connection", 2 NC "No Connection", 3 SDI (in) "Serial Data Input", 5 CLK (in) "Data Clock Input", 7 LDAC (in) "DAC Register Load Control, Rising Edge Triggered", 9 ~{LOAD} (in) "DAC Input Register Load Control, Active Low", 11 ~{CS} (in) "Chip Select, Active Low", 13 SDO (out) "Serial Data Output", 15 RSTSEL (in) "Reset Select. Determines the action of RST. If HIGH, a RST common will set the DAC registers to mid-scale (8000H). If LOW, a RST command will set the DAC registers to zero (0000H).", 17 RST (in) "Reset, Rising Edge Triggered. Depending on the state of RSTSEL, the DAC registers are set to either mid-scale or zero.", 19 NC "No Connection", 20 NC "No Connection", 31 VOUTD (out) "DAC D Output Voltage", 32 VOUTD SENSE (in) "DAC D’s Output Amplifier Inverting Input. Used to close feedback loop at load.", 33 VREFL CD SENSE (in) "DAC C and D Reference Low Sense Input", 34 VREFL CD (in) "DAC C and D Reference Low Input", 35 VREFH CD (in) "DAC C and D Reference High Input", 36 VREFH CD SENSE (in) "DAC C and D Reference High Sense Input", 37 VOUTC (out) "DAC C Output Voltage", 38 VOUTC SENSE (in) "DAC C’s Output Amplifier Inverting Input. Used to close the feedback loop at the load.", 39 VOUTB (out) "DAC B Output Voltage", 40 VOUTB SENSE (in) "DAC B’s Output Amplifier Inverting Input. Used to close the feedback loop at the load.", 41 VREFH AB SENSE (in) "DAC A and B Reference High Sense Input", 42 VREFH AB (in) "DAC A and B Reference High Input", 43 VREFL AB (in) "DAC A and B Reference Low Input", 44 VREFL AB SENSE (in) "DAC A and B Reference Low Sense Input", 47 VOUTA (out) "DAC A Output Voltage", 48 VOUTA SENSE (in) "DAC A’s Output Amplifier Inverting Input. Used to close the feedback loop at the load."
part B pins: 4 DGND (power) "Digital Ground", 6 DGND (power) "Digital Ground", 8 DGND (power) "Digital Ground", 10 DGND (power) "Digital Ground", 12 DGND (power) "Digital Ground", 14 DGND (power) "Digital Ground", 16 DGND (power) "Digital Ground", 18 DGND (power) "Digital Ground", 21 DGND (power) "Digital Ground", 22 DGND (power) "Digital Ground", 23 VDD (power) "Digital +5V Power Supply", 24 VDD (power) "Digital +5V Power Supply", 25 VCC (power) "Analog +15V Power Supply", 26 VCC (power) "Analog +15V Power Supply", 27 AGND (power) "Analog Ground", 28 AGND (power) "Analog Ground", 29 VSS (power) "Analog -15V Power Supply or 0V Single Supply", 30 VSS (power) "Analog -15V Power Supply or 0V Single Supply", 45 VSS (power) "Analog -15V Power Supply or 0V Single Supply", 46 AGND (power) "Analog Ground"

## DAC7734EC/1K
designator U?
16-Bit, Quad Voltage Output, Serial Input DAC, -40 to 85 degC, 48-pin SOP (DL48), Green (RoHS & no Sb/Br); Manufacturer: Texas Instruments; PartNumber: DAC7734EC/1K; DAC Channels: 4; DNL(Max)(+/-LSB): 1; INL(Max)(+/-LSB): 2; Interface: Serial SPI; Resolution(Bits): 16; Settling Time(us): 10; SubFamily: Precision DAC (=<10MSPS); DatasheetVersion: SBAS138A; PackageVersion: 4040048/E, 12/2001; PackageReference: DL48; PackageDescription: 48-Pin Plastic Small Outline, Body 7.49 x 15.88 mm, Pitch 0.635 mm; Supplier 1: Digi-Key; Supplier Part Number 1: DAC7734EC/1K-ND; Supplier 2: Newark; Supplier Part Number 2: 74C9263; Supplier 3: Mouser; Supplier Part Number 3: 595-DAC7734EC/1K; Eco-Plan: Green (RoHS & no Sb/Br); Mounting Technology: Surface Mount; Code_JEDEC: MO-118; ComponentLink1Description: Manufacturer URL; ComponentLink1URL: http://www.ti.com/; ComponentLink2Description: Datasheet; ComponentLink2URL: http://www.ti.com/general/docs/lit/getliterature.tsp?genericPartNumber=DAC7734&fileType=pdf; ComponentLink3Description: Package Specification; ComponentLink3URL: http://www.ti.com/lit/ml/msso001c/msso001c.pdf
footprint TI-DL48_N (SOP, 48-Leads, Body 15.88x7.49mm, Pitch 0.635mm, IPC Medium Density)
footprint TI-DL48_L (SOP, 48-Leads, Body 15.88x7.49mm, Pitch 0.635mm, IPC High Density)
footprint TI-DL48_M (SOP, 48-Leads, Body 15.88x7.49mm, Pitch 0.635mm, IPC Low Density)
part A pins: 1 NC "No Connection", 2 NC "No Connection", 3 SDI (in) "Serial Data Input", 5 CLK (in) "Data Clock Input", 7 LDAC (in) "DAC Register Load Control, Rising Edge Triggered", 9 ~{LOAD} (in) "DAC Input Register Load Control, Active Low", 11 ~{CS} (in) "Chip Select, Active Low", 13 SDO (out) "Serial Data Output", 15 RSTSEL (in) "Reset Select. Determines the action of RST. If HIGH, a RST common will set the DAC registers to mid-scale (8000H). If LOW, a RST command will set the DAC registers to zero (0000H).", 17 RST (in) "Reset, Rising Edge Triggered. Depending on the state of RSTSEL, the DAC registers are set to either mid-scale or zero.", 19 NC "No Connection", 20 NC "No Connection", 31 VOUTD (out) "DAC D Output Voltage", 32 VOUTD SENSE (in) "DAC D’s Output Amplifier Inverting Input. Used to close feedback loop at load.", 33 VREFL CD SENSE (in) "DAC C and D Reference Low Sense Input", 34 VREFL CD (in) "DAC C and D Reference Low Input", 35 VREFH CD (in) "DAC C and D Reference High Input", 36 VREFH CD SENSE (in) "DAC C and D Reference High Sense Input", 37 VOUTC (out) "DAC C Output Voltage", 38 VOUTC SENSE (in) "DAC C’s Output Amplifier Inverting Input. Used to close the feedback loop at the load.", 39 VOUTB (out) "DAC B Output Voltage", 40 VOUTB SENSE (in) "DAC B’s Output Amplifier Inverting Input. Used to close the feedback loop at the load.", 41 VREFH AB SENSE (in) "DAC A and B Reference High Sense Input", 42 VREFH AB (in) "DAC A and B Reference High Input", 43 VREFL AB (in) "DAC A and B Reference Low Input", 44 VREFL AB SENSE (in) "DAC A and B Reference Low Sense Input", 47 VOUTA (out) "DAC A Output Voltage", 48 VOUTA SENSE (in) "DAC A’s Output Amplifier Inverting Input. Used to close the feedback loop at the load."
part B pins: 4 DGND (power) "Digital Ground", 6 DGND (power) "Digital Ground", 8 DGND (power) "Digital Ground", 10 DGND (power) "Digital Ground", 12 DGND (power) "Digital Ground", 14 DGND (power) "Digital Ground", 16 DGND (power) "Digital Ground", 18 DGND (power) "Digital Ground", 21 DGND (power) "Digital Ground", 22 DGND (power) "Digital Ground", 23 VDD (power) "Digital +5V Power Supply", 24 VDD (power) "Digital +5V Power Supply", 25 VCC (power) "Analog +15V Power Supply", 26 VCC (power) "Analog +15V Power Supply", 27 AGND (power) "Analog Ground", 28 AGND (power) "Analog Ground", 29 VSS (power) "Analog -15V Power Supply or 0V Single Supply", 30 VSS (power) "Analog -15V Power Supply or 0V Single Supply", 45 VSS (power) "Analog -15V Power Supply or 0V Single Supply", 46 AGND (power) "Analog Ground"

## DAC7734EC/1KG4
designator U?
16-Bit, Quad Voltage Output, Serial Input DAC, -40 to 85 degC, 48-pin SOP (DL48), Green (RoHS & no Sb/Br); Manufacturer: Texas Instruments; PartNumber: DAC7734EC/1KG4; DAC Channels: 4; DNL(Max)(+/-LSB): 1; INL(Max)(+/-LSB): 2; Interface: Serial SPI; Resolution(Bits): 16; Settling Time(us): 10; SubFamily: Precision DAC (=<10MSPS); DatasheetVersion: SBAS138A; PackageVersion: 4040048/E, 12/2001; PackageReference: DL48; PackageDescription: 48-Pin Plastic Small Outline, Body 7.49 x 15.88 mm, Pitch 0.635 mm; Supplier 1: Digi-Key; Supplier Part Number 1: DAC7734EC/1KG4-ND; Supplier 2: Mouser; Supplier Part Number 2: 595-DAC7734EC/1KG4; Eco-Plan: Green (RoHS & no Sb/Br); Mounting Technology: Surface Mount; Code_JEDEC: MO-118; ComponentLink1Description: Manufacturer URL; ComponentLink1URL: http://www.ti.com/; ComponentLink2Description: Datasheet; ComponentLink2URL: http://www.ti.com/general/docs/lit/getliterature.tsp?genericPartNumber=DAC7734&fileType=pdf; ComponentLink3Description: Package Specification; ComponentLink3URL: http://www.ti.com/lit/ml/msso001c/msso001c.pdf
footprint TI-DL48_N (SOP, 48-Leads, Body 15.88x7.49mm, Pitch 0.635mm, IPC Medium Density)
footprint TI-DL48_L (SOP, 48-Leads, Body 15.88x7.49mm, Pitch 0.635mm, IPC High Density)
footprint TI-DL48_M (SOP, 48-Leads, Body 15.88x7.49mm, Pitch 0.635mm, IPC Low Density)
part A pins: 1 NC "No Connection", 2 NC "No Connection", 3 SDI (in) "Serial Data Input", 5 CLK (in) "Data Clock Input", 7 LDAC (in) "DAC Register Load Control, Rising Edge Triggered", 9 ~{LOAD} (in) "DAC Input Register Load Control, Active Low", 11 ~{CS} (in) "Chip Select, Active Low", 13 SDO (out) "Serial Data Output", 15 RSTSEL (in) "Reset Select. Determines the action of RST. If HIGH, a RST common will set the DAC registers to mid-scale (8000H). If LOW, a RST command will set the DAC registers to zero (0000H).", 17 RST (in) "Reset, Rising Edge Triggered. Depending on the state of RSTSEL, the DAC registers are set to either mid-scale or zero.", 19 NC "No Connection", 20 NC "No Connection", 31 VOUTD (out) "DAC D Output Voltage", 32 VOUTD SENSE (in) "DAC D’s Output Amplifier Inverting Input. Used to close feedback loop at load.", 33 VREFL CD SENSE (in) "DAC C and D Reference Low Sense Input", 34 VREFL CD (in) "DAC C and D Reference Low Input", 35 VREFH CD (in) "DAC C and D Reference High Input", 36 VREFH CD SENSE (in) "DAC C and D Reference High Sense Input", 37 VOUTC (out) "DAC C Output Voltage", 38 VOUTC SENSE (in) "DAC C’s Output Amplifier Inverting Input. Used to close the feedback loop at the load.", 39 VOUTB (out) "DAC B Output Voltage", 40 VOUTB SENSE (in) "DAC B’s Output Amplifier Inverting Input. Used to close the feedback loop at the load.", 41 VREFH AB SENSE (in) "DAC A and B Reference High Sense Input", 42 VREFH AB (in) "DAC A and B Reference High Input", 43 VREFL AB (in) "DAC A and B Reference Low Input", 44 VREFL AB SENSE (in) "DAC A and B Reference Low Sense Input", 47 VOUTA (out) "DAC A Output Voltage", 48 VOUTA SENSE (in) "DAC A’s Output Amplifier Inverting Input. Used to close the feedback loop at the load."
part B pins: 4 DGND (power) "Digital Ground", 6 DGND (power) "Digital Ground", 8 DGND (power) "Digital Ground", 10 DGND (power) "Digital Ground", 12 DGND (power) "Digital Ground", 14 DGND (power) "Digital Ground", 16 DGND (power) "Digital Ground", 18 DGND (power) "Digital Ground", 21 DGND (power) "Digital Ground", 22 DGND (power) "Digital Ground", 23 VDD (power) "Digital +5V Power Supply", 24 VDD (power) "Digital +5V Power Supply", 25 VCC (power) "Analog +15V Power Supply", 26 VCC (power) "Analog +15V Power Supply", 27 AGND (power) "Analog Ground", 28 AGND (power) "Analog Ground", 29 VSS (power) "Analog -15V Power Supply or 0V Single Supply", 30 VSS (power) "Analog -15V Power Supply or 0V Single Supply", 45 VSS (power) "Analog -15V Power Supply or 0V Single Supply", 46 AGND (power) "Analog Ground"

## DAC7734ECG4
designator U?
16-Bit, Quad Voltage Output, Serial Input DAC, -40 to 85 degC, 48-pin SOP (DL48), Green (RoHS & no Sb/Br); Manufacturer: Texas Instruments; PartNumber: DAC7734ECG4; DAC Channels: 4; DNL(Max)(+/-LSB): 1; INL(Max)(+/-LSB): 2; Interface: Serial SPI; Resolution(Bits): 16; Settling Time(us): 10; SubFamily: Precision DAC (=<10MSPS); DatasheetVersion: SBAS138A; PackageVersion: 4040048/E, 12/2001; PackageReference: DL48; PackageDescription: 48-Pin Plastic Small Outline, Body 7.49 x 15.88 mm, Pitch 0.635 mm; Supplier 1: Digi-Key; Supplier Part Number 1: DAC7734ECG4-ND; Supplier 2: Mouser; Supplier Part Number 2: 595-DAC7734ECG4; Eco-Plan: Green (RoHS & no Sb/Br); Mounting Technology: Surface Mount; Code_JEDEC: MO-118; ComponentLink1Description: Manufacturer URL; ComponentLink1URL: http://www.ti.com/; ComponentLink2Description: Datasheet; ComponentLink2URL: http://www.ti.com/general/docs/lit/getliterature.tsp?genericPartNumber=DAC7734&fileType=pdf; ComponentLink3Description: Package Specification; ComponentLink3URL: http://www.ti.com/lit/ml/msso001c/msso001c.pdf
footprint TI-DL48_N (SOP, 48-Leads, Body 15.88x7.49mm, Pitch 0.635mm, IPC Medium Density)
footprint TI-DL48_L (SOP, 48-Leads, Body 15.88x7.49mm, Pitch 0.635mm, IPC High Density)
footprint TI-DL48_M (SOP, 48-Leads, Body 15.88x7.49mm, Pitch 0.635mm, IPC Low Density)
part A pins: 1 NC "No Connection", 2 NC "No Connection", 3 SDI (in) "Serial Data Input", 5 CLK (in) "Data Clock Input", 7 LDAC (in) "DAC Register Load Control, Rising Edge Triggered", 9 ~{LOAD} (in) "DAC Input Register Load Control, Active Low", 11 ~{CS} (in) "Chip Select, Active Low", 13 SDO (out) "Serial Data Output", 15 RSTSEL (in) "Reset Select. Determines the action of RST. If HIGH, a RST common will set the DAC registers to mid-scale (8000H). If LOW, a RST command will set the DAC registers to zero (0000H).", 17 RST (in) "Reset, Rising Edge Triggered. Depending on the state of RSTSEL, the DAC registers are set to either mid-scale or zero.", 19 NC "No Connection", 20 NC "No Connection", 31 VOUTD (out) "DAC D Output Voltage", 32 VOUTD SENSE (in) "DAC D’s Output Amplifier Inverting Input. Used to close feedback loop at load.", 33 VREFL CD SENSE (in) "DAC C and D Reference Low Sense Input", 34 VREFL CD (in) "DAC C and D Reference Low Input", 35 VREFH CD (in) "DAC C and D Reference High Input", 36 VREFH CD SENSE (in) "DAC C and D Reference High Sense Input", 37 VOUTC (out) "DAC C Output Voltage", 38 VOUTC SENSE (in) "DAC C’s Output Amplifier Inverting Input. Used to close the feedback loop at the load.", 39 VOUTB (out) "DAC B Output Voltage", 40 VOUTB SENSE (in) "DAC B’s Output Amplifier Inverting Input. Used to close the feedback loop at the load.", 41 VREFH AB SENSE (in) "DAC A and B Reference High Sense Input", 42 VREFH AB (in) "DAC A and B Reference High Input", 43 VREFL AB (in) "DAC A and B Reference Low Input", 44 VREFL AB SENSE (in) "DAC A and B Reference Low Sense Input", 47 VOUTA (out) "DAC A Output Voltage", 48 VOUTA SENSE (in) "DAC A’s Output Amplifier Inverting Input. Used to close the feedback loop at the load."
part B pins: 4 DGND (power) "Digital Ground", 6 DGND (power) "Digital Ground", 8 DGND (power) "Digital Ground", 10 DGND (power) "Digital Ground", 12 DGND (power) "Digital Ground", 14 DGND (power) "Digital Ground", 16 DGND (power) "Digital Ground", 18 DGND (power) "Digital Ground", 21 DGND (power) "Digital Ground", 22 DGND (power) "Digital Ground", 23 VDD (power) "Digital +5V Power Supply", 24 VDD (power) "Digital +5V Power Supply", 25 VCC (power) "Analog +15V Power Supply", 26 VCC (power) "Analog +15V Power Supply", 27 AGND (power) "Analog Ground", 28 AGND (power) "Analog Ground", 29 VSS (power) "Analog -15V Power Supply or 0V Single Supply", 30 VSS (power) "Analog -15V Power Supply or 0V Single Supply", 45 VSS (power) "Analog -15V Power Supply or 0V Single Supply", 46 AGND (power) "Analog Ground"